# Altium schematic symbol library Res_Yageo_RC1206FR-0722KL_eec.SchLib: 1 symbol
Pins are listed as number, name and electrical type; pins without a type are passive.

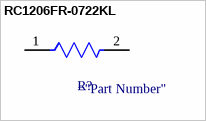
[diagram p0: symbol RC1206FR-0722KL]

## RC1206FR-0722KL
designator R?  (value not drawn)
pins: 1, 2